# EAGLE library part A4988_CARRIER (library pololu_stepper_driver)
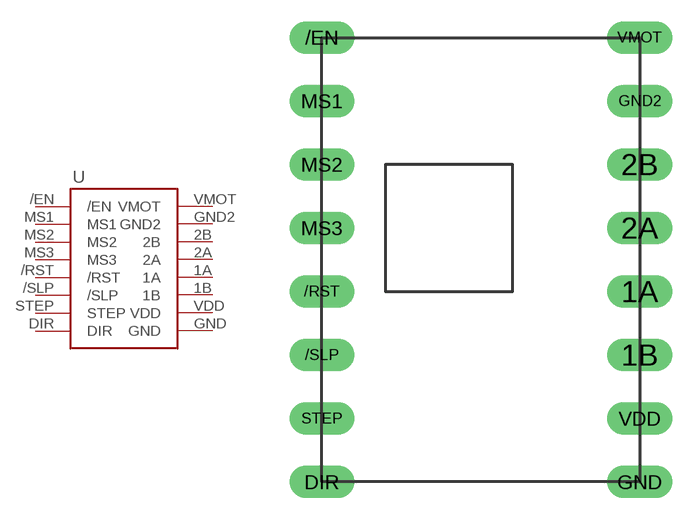
[diagram p0: symbol with the pads of A4988_CARRIER; footprint A4988_CARRIER]

Designator prefix -

## A4988_CARRIER  [A4988_CARRIER]
1A  1A
1B  1B
2A  2A
2B  2B
/EN  /EN
/RST  /RST
/SLP  /SLP
DIR  DIR
GND  GND
GND2  GND2
MS1  MS1
MS2  MS2
MS3  MS3
STEP  STEP
VDD  VDD
VMOT  VMOT

## Footprint A4988_CARRIER (pad centres in mm)
drill 0.8 long: 1A 5.08,-2.54; 1B 5.08,-5.08; 2A 5.08,0; 2B 5.08,2.54; /EN -7.62,7.62; /RST -7.62,-2.54; /SLP -7.62,-5.08; DIR -7.62,-10.16; GND 5.08,-10.16; GND2 5.08,5.08; MS1 -7.62,5.08; MS2 -7.62,2.54; MS3 -7.62,0; STEP -7.62,-7.62; VDD 5.08,-7.62; VMOT 5.08,7.62